# Altium footprint library 2.4.PcbLib: 19 footprints (part 2 of 2)
Each footprint in its own frame and in the unit in brackets; x right, y up, seen from the top. Pads: shape width x height; smd on the part's side, far side on the other; paste and mask are expansions set on the pad; w line width, h text height; cw(c..) or ccw(c..) is an arc to the next point about the centre after c.
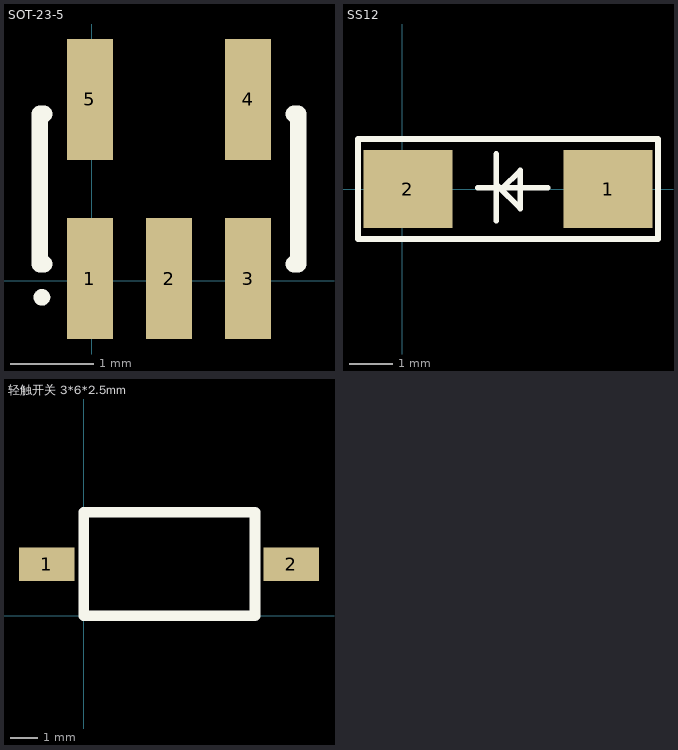
[diagram p1: the footprints below, top view; thin cyan lines are the x and y axes]

## SOT-23-5 [mm]
height 1.75
pads (5):
  rect 0.55x1.45 smd: 1(-0.025,0.025) 2(0.925,0.025) 3(1.875,0.025) 4(1.875,2.175) 5(-0.025,2.175)
Top Overlay:
  circle w0.1: c-0.6,-0.2 r0.05
  lines w0.2: -0.575,0.2 -0.625,0.2 -0.625,2 -0.575,2 ; 2.425,0.2 2.475,0.2 2.475,2 2.425,2

## SS12 [mil]
pads (2):
  rect 80x70 smd: 1(185,0) 2(5,0)
Top Overlay:
  lines w5: 67.68,0.98 130.67,0.98 ; 84.41,-28.5 84.41,31.5 ; 85.39,2.95 106.06,-17.72 106.06,16.73 89.33,0 ; -40,-45 -40,45 230,45 230,-45 -40,-45
3D body: height 94.49, standoff 0, extent -6.1,-50 175,56.3

## 轻触开关 3*6*2.5mm [mm]
pads (2):
  rect 2x1.2 smd: 1(-1.321,1.85) 2(7.442,1.85)
Top Overlay:
  lines w0.381: 0,0 0,3.708 6.147,3.708 6.147,0 0,0